# Altium footprint library Semiconductors.PcbLib: 51 footprints (part 3 of 4)
Each footprint in its own frame and in the unit in brackets; x right, y up, seen from the top. Pads: shape width x height; smd on the part's side, far side on the other; paste and mask are expansions set on the pad; w line width, h text height; cw(c..) or ccw(c..) is an arc to the next point about the centre after c.
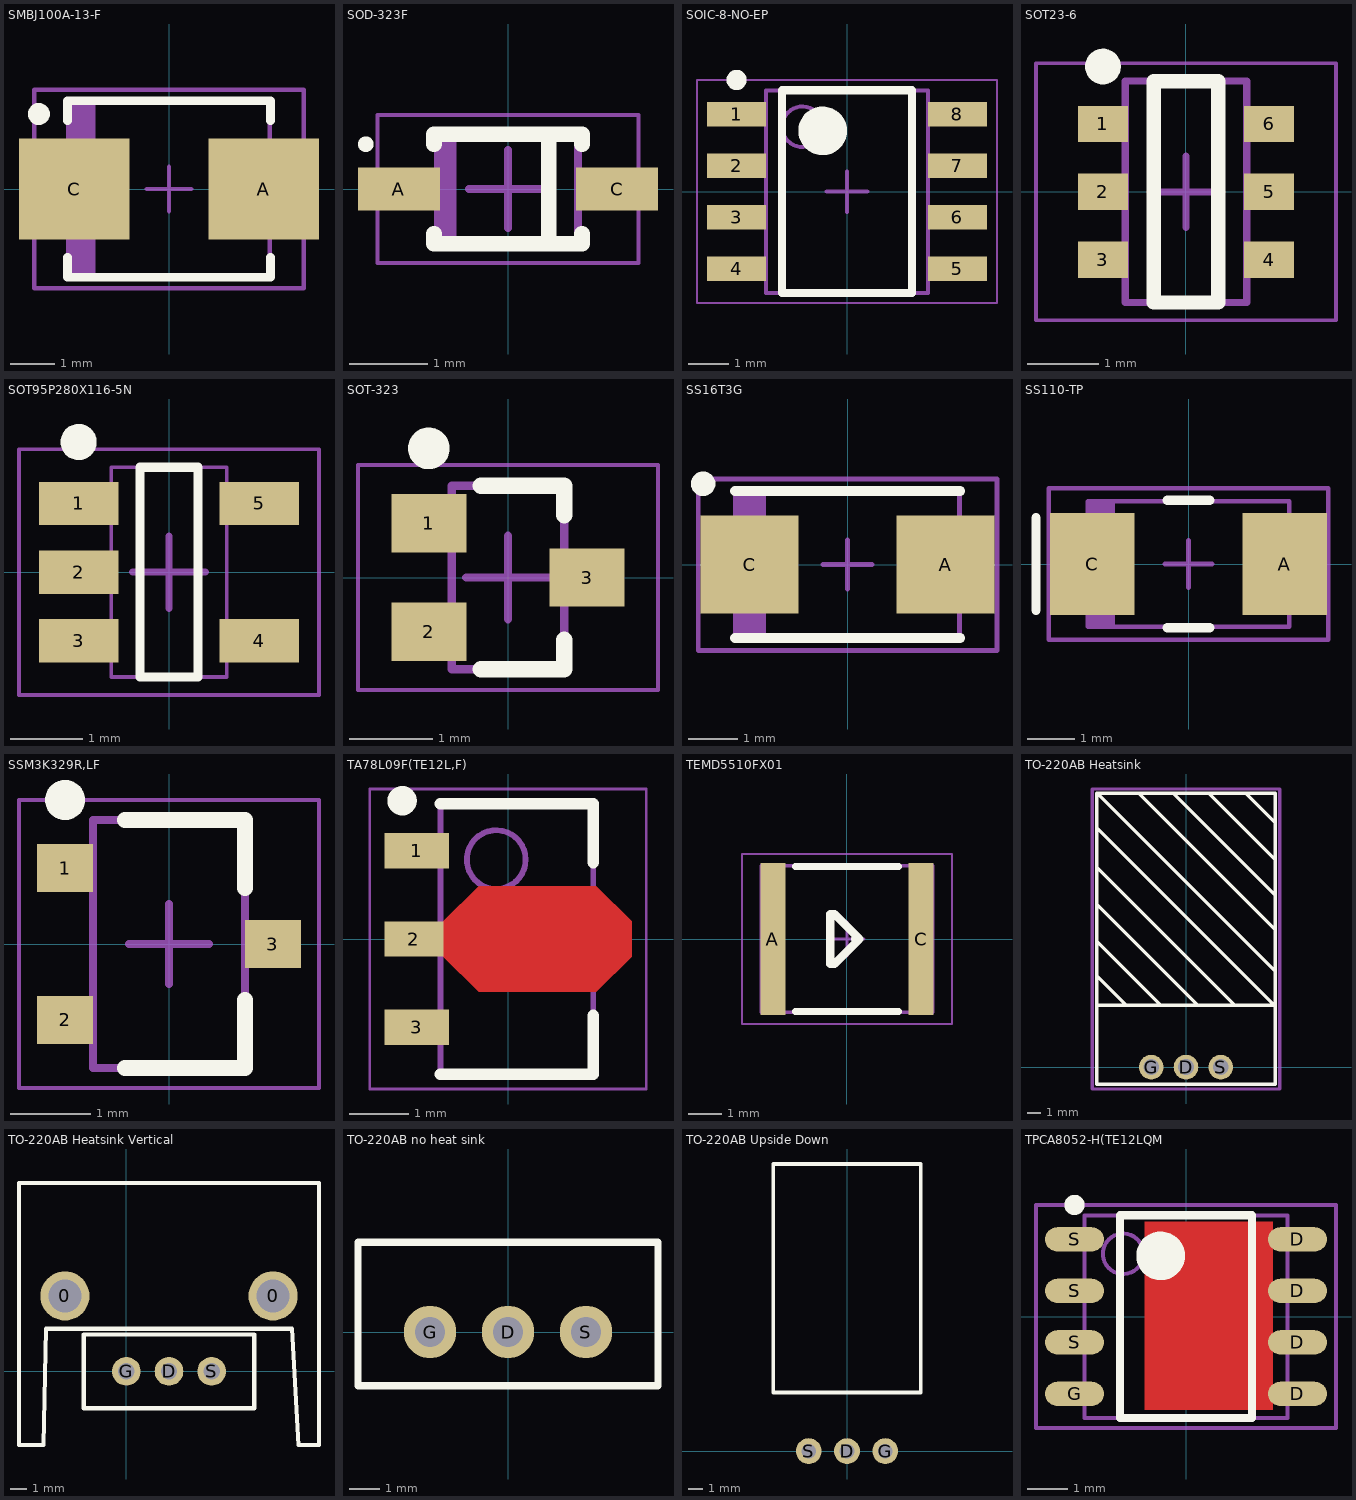
[diagram p2: the footprints below, top view; thin cyan lines are the x and y axes]

## SMBJ100A-13-F [mm] "TVS DIODE 100VWM 162VC SMB"
height 2.62
pads (2):
  rect 2.5x2.3 smd: A(2.15,0) C(-2.15,0)
Top Overlay:
  circle w0.25: c-2.95,1.7 r0.125
  lines w0.2: -2.3,-1.55 -2.3,-2 2.3,-2 2.3,-1.55 ; -2.3,1.55 -2.3,2 2.3,2 2.3,1.55
Mechanical 13:
  rectangle: -2.285,-1.97 -1.67,1.97
  lines w0.1: -2.285,-1.97 2.285,-1.97 2.285,1.97 -2.285,1.97 -2.285,-1.97
Mechanical 15:
  lines w0.1: -0.5,0 0.5,0 ; 0,-0.5 0,0.5 ; -3.05,-2.25 3.05,-2.25 3.05,2.25 -3.05,2.25 -3.05,-2.25
3D body: height 2.62, standoff 0, extent -2.285,-1.97 2.285,1.97

## SOD-323F [mm] "Molded Diode, 2-Leads, Body 1.70x1.25mm, IPC Medium Density"
height 1
pads (2):
  rect 1.05x0.55 smd: A(-1.4,0) C(1.4,0)
Top Overlay:
  circle w0.1: c-1.825,0.575 r0.05
  lines w0.2: -0.95,-0.575 -0.95,-0.7 0.95,-0.7 0.95,-0.575 ; -0.95,0.575 -0.95,0.7 0.95,0.7 0.95,0.575 ; 0.525,-0.7 0.525,0.6
Mechanical 13:
  rectangle: -0.9,-0.675 -0.658,0.675
  lines w0.1: -0.9,-0.675 -0.9,0.675 0.9,0.675 0.9,-0.675 -0.9,-0.675
Mechanical 15:
  lines w0.05: -1.675,-0.95 -1.675,0.95 1.675,0.95 1.675,-0.95 -1.675,-0.95
  lines w0.1: -0.5,0 0.5,0 ; 0,-0.5 0,0.5
3D body: height 1, standoff 0, extent -0.9,-0.675 0.9,0.675

## SOIC-8-NO-EP [mm] "SOIC, 8-Leads, Body 4.90x3.90mm, Pitch 1.27mm, IPC Medium Density"
height 1.75
pads (8):
  rect 1.45x0.6 smd: 1(-2.725,1.905) 2(-2.725,0.635) 3(-2.725,-0.635) 4(-2.725,-1.905) 5(2.725,-1.905) 6(2.725,-0.635) 7(2.725,0.635) 8(2.725,1.905)
Top Overlay:
  circle w0.25: c-2.725,2.755 r0.125
  circle w0.6: c-0.6,1.5 r0.3
  lines w0.2: -1.6,-2.5 -1.6,2.5 1.6,2.5 1.6,-2.5 -1.6,-2.5
Mechanical 13:
  circle w0.1: c-1.1,1.6 r0.5
  lines w0.1: -2,-2.5 -2,2.5 2,2.5 2,-2.5 -2,-2.5
Mechanical 15:
  lines w0.05: -3.7,-2.75 -3.7,2.75 3.7,2.75 3.7,-2.75 -3.7,-2.75
  lines w0.1: -0.5,0 0.5,0 ; 0,-0.5 0,0.5
3D body: height 1.75, standoff 0.1, extent -2,-2.5 2,2.5

## SOT23-6 [mil] "SOT23, 6-Leads, Body 3.03x2.84mm, Pitch 0.95mm, IPC Medium Density"
height 43.31
pads (6):
  rect 27.52x20 smd: 1(-45.77,37.4) 2(-45.77,0) 3(-45.77,-37.4) 4(45.77,-37.4) 5(45.77,0) 6(45.77,37.4)
Top Overlay:
  circle w9.84: c-45.77,69.06 r4.92
  lines w7.87: -17.72,-61.02 -17.72,61.02 17.72,61.02 17.72,-61.02 -17.72,-61.02
Mechanical 13:
  lines w3.94: -33.46,-61.02 33.46,-61.02 33.46,61.02 -33.46,61.02 -33.46,-61.02
Mechanical 15:
  lines w1.97: -82.68,-70.87 82.68,-70.87 82.68,70.87 -82.68,70.87 -82.68,-70.87
  lines w3.94: -19.68,0 19.69,0 ; 0,-19.68 0,19.69
3D body: height 43.31, standoff 0.39, extent -33.46,-61.02 33.46,61.02

## SOT95P280X116-5N [mm] "SOT23, 5-Leads, Body 2.90x2.80mm, Pitch 0.95mm, IPC Medium Density"
height 1.16
pads (5):
  rect 1.1x0.6 smd: 1(-1.25,0.95) 2(-1.25,0) 3(-1.25,-0.95) 4(1.25,-0.95) 5(1.25,0.95)
Top Overlay:
  circle w0.25: c-1.25,1.8 r0.125
  lines w0.127: -0.4,-1.45 -0.4,1.45 0.4,1.45 0.4,-1.45 -0.4,-1.45
Mechanical 13:
  lines w0.05: -0.8,-1.45 0.8,-1.45 0.8,1.45 -0.8,1.45 -0.8,-1.45
Mechanical 15:
  lines w0.05: -2.075,-1.7 2.075,-1.7 2.075,1.7 -2.075,1.7 -2.075,-1.7
  lines w0.1: -0.5,0 0.5,0 ; 0,-0.5 0,0.5
3D body: height 1.16, standoff 0.07, extent -0.8,-1.45 0.8,1.45

## SOT-323 [mm] "SOT23, 3-Leads, Body 2.00x2.20mm, Pitch 0.65mm, IPC Medium Density"
height 1
pads (3):
  rect 0.9x0.7 smd: 1(-0.95,0.65) 2(-0.95,-0.65) 3(0.95,0)
Top Overlay:
  circle w0.25: c-0.95,1.55 r0.125
  lines w0.2: -0.325,-1.1 0.675,-1.1 0.675,-0.75 ; -0.325,1.1 0.675,1.1 0.675,0.75
Mechanical 13:
  lines w0.1: -0.675,-1.1 -0.675,1.1 0.675,1.1 0.675,-1.1 -0.675,-1.1
Mechanical 15:
  lines w0.05: -1.8,-1.35 -1.8,1.35 1.8,1.35 1.8,-1.35 -1.8,-1.35
  lines w0.1: -0.5,0 0.5,0 ; 0,-0.5 0,0.5
3D body: height 1, standoff 0, extent -0.675,-1.1 0.675,1.1

## SS16T3G [mm] "DIODE SCHOTTKY 60V 1A SMA"
height 2.2
pads (2):
  rect 2x2 smd: A(2,0) C(-2,0)
Top Overlay:
  circle w0.25: c-2.95,1.65 r0.125
  lines w0.2: -2.3,-1.5 2.3,-1.5 ; -2.3,1.5 2.3,1.5
Mechanical 13:
  rectangle: -2.285,-1.46 -1.67,1.46
  lines w0.1: -2.285,-1.46 2.285,-1.46 2.285,1.46 -2.285,1.46 -2.285,-1.46
Mechanical 15:
  lines w0.1: -0.5,0 0.5,0 ; 0,-0.5 0,0.5 ; -3.05,-1.75 3.05,-1.75 3.05,1.75 -3.05,1.75 -3.05,-1.75
3D body: height 2.2, standoff 0, extent -2.285,-1.46 2.285,1.46

## SS110-TP [mil] "DIODE SCHOTTKY 100V 1A SMA"
height 116.14
pads (2):
  rect 70x85 smd: A(80,0) C(-80,0)
Top Overlay:
  lines w7.87: -126.81,-38.56 -126.81,38.56 ; -17.72,-53.15 17.72,-53.15 ; -17.72,53.15 17.72,53.15
Mechanical 13:
  rectangle: -83.66,-52.17 -61.16,52.17
  lines w3.94: -83.66,-52.17 -83.66,52.17 83.66,52.17 83.66,-52.17 -83.66,-52.17
Mechanical 15:
  lines w3.94: -19.68,0 19.68,0 ; 0,-19.68 0,19.68 ; -116.14,-62.99 -116.14,62.99 116.14,62.99 116.14,-62.99 -116.14,-62.99
3D body: height 116.14, standoff 0, extent -83.66,-52.17 83.66,52.17

## SSM3K329R,LF [mm] "MOSFET N CH 30V 3.5A 2-3Z1A"
height 0.8
pads (3):
  rect 0.7x0.6 smd: 1(-1.3,0.95) 2(-1.3,-0.95) 3(1.3,0)
Top Overlay:
  circle w0.25: c-1.3,1.8 r0.125
  lines w0.2: -0.55,-1.55 0.95,-1.55 0.95,-0.7 ; -0.55,1.55 0.95,1.55 0.95,0.7
Mechanical 13:
  lines w0.1: -0.95,-1.55 -0.95,1.55 0.95,1.55 0.95,-1.55 -0.95,-1.55
Mechanical 15:
  lines w0.05: -1.875,-1.8 -1.875,1.8 1.875,1.8 1.875,-1.8 -1.875,-1.8
  lines w0.1: -0.5,0 0.5,0 ; 0,-0.5 0,0.5
3D body: height 0.8, standoff 0, extent -0.95,-1.55 0.95,1.55

## TA78L09F(TE12L,F) [mm] "IC REG LDO 9V 0.15A PWMINI"
height 1.6
pads (3):
  rect 1.1x0.6 smd: 1(-1.55,1.5) 3(-1.55,-1.5)
  rect 1x0.6 smd: 2(-1.6,0)
Top Layer:
  region: -1.1,0.3 -0.5,0.9 1.5,0.9 2.1,0.3 2.1,-0.3 1.5,-0.9 -0.5,-0.9 -1.1,-0.3
Top Overlay:
  circle w0.25: c-1.8,2.35 r0.125
  lines w0.2: -1.15,-2.3 1.45,-2.3 1.45,-1.3 ; -1.15,2.3 1.45,2.3 1.45,1.3
Mechanical 13:
  circle w0.1: c-0.2,1.35 r0.5
  lines w0.1: -1.15,-2.3 1.45,-2.3 1.45,2.3 -1.15,2.3 -1.15,-2.3
Mechanical 15:
  lines w0.05: -2.35,-2.55 2.35,-2.55 2.35,2.55 -2.35,2.55 -2.35,-2.55
  lines w0.1: -0.35,0 0.65,0 ; 0.15,-0.5 0.15,0.5
3D body: height 1.6, standoff 0, extent -1.15,-2.3 1.45,2.3

## TEMD5510FX01 [mm] "PHOTODIODE PIN HI SPEED MINI SMD"
height 1.12
pads (2):
  rect 0.75x4.55 smd: A(-2.225,0) C(2.225,0)
Top Overlay:
  lines w0.2: -1.55,-2.175 1.55,-2.175 ; -1.55,2.175 1.55,2.175
  lines w0.254: 0.25,0 0.375,0 ; 0.375,0 -0.375,0.75 -0.5,0.75 -0.5,-0.75 -0.375,-0.75 0.375,0
Mechanical 13:
  lines w0.1: -2.575,-2.195 -2.575,2.195 2.575,2.195 2.575,-2.195 -2.575,-2.195
Mechanical 15:
  lines w0.05: -3.15,-2.55 -3.15,2.55 3.15,2.55 3.15,-2.55 -3.15,-2.55
  lines w0.1: -0.5,0 0.5,0 ; 0,-0.5 0,0.5
3D body: height 1.12, standoff 0, extent -2.075,-2.195 2.075,2.195
3D body: height 1.12, standoff 0, extent -2.575,-2.195 -2.075,2.195
3D body: height 1.12, standoff 0, extent 2.075,-2.195 2.575,2.195

## TO-220AB Heatsink [mm] "HEXFET Power MOSFET w/ Heat Sink"
height 12.7
pads (3):
  round 1.8 hole 1.15: D(0,0) G(-2.54,0) S(2.54,0)
Top Overlay:
  lines w0.25: -6.53,11.89 0.86,4.5 ; -6.53,14.59 3.51,4.55 ; -6.52,4.5 6.52,4.5 ; -6.48,6.64 -4.39,4.55 ; -6.48,9.14 -1.89,4.55 ; -6.48,17.44 6.42,4.54 ; -3.44,20 6.49,10.07 ; -0.94,20 6.49,12.57 ; 1.66,20 6.49,15.17 ; 4.36,20 6.49,17.87 ; 6.52,7 -6.48,20 -6.52,20 ; -6.52,20 6.52,20 6.52,-1.25 -6.52,-1.25 -6.52,20
Mechanical 15:
  lines w0.25: -6.84,-1.6 6.84,-1.6 6.84,20.3 -6.84,20.3 -6.84,-1.6
3D body: height 12.7, standoff 0, extent 3.96,4.5 6.36,19.9
3D body: height 12.7, standoff 0, extent -6.44,4.5 -4.04,19.9
3D body: height 5.3, standoff 0, extent -6.44,4.5 6.36,19.9
3D body: height 4.5, standoff 4, extent -3.04,0 -2.04,4.7
3D body: height 4.5, standoff 0, extent -3.04,0 -2.04,0.3
3D body: height 4.5, standoff 0, extent -0.5,-0.15 0.5,0.15
3D body: height 4.5, standoff 0, extent 1.96,-0.1 2.96,0.2
3D body: height 4.5, standoff 4, extent -0.44,0 0.56,4.7
3D body: height 4.5, standoff 4, extent 2.06,0 3.06,4.7

## TO-220AB Heatsink Vertical [mm] "Vertical Heatsink for better heat management"
height 30.5
pads (5):
  round 3 hole 2: 0(-3.75,4.6) 0(8.95,4.6)
  round 1.75 hole 1: D(2.6,0) G(0,0) S(5.2,0)
Top Overlay:
  lines w0.254: -6.55,-4.5 -6.55,11.5 11.75,11.5 11.75,-4.5 10.5,-4.5 10.1,2.6 -4.9,2.6 -5.05,-4.5 -6.55,-4.5 ; -2.6,-2.25 7.8,-2.25 7.8,2.25 -2.6,2.25 -2.6,-2.25
3D body: height 18.5, standoff 0, extent -2.54,-2.286 7.747,2.286
3D body: height 30.5, standoff 0, extent 6.096,6.858 8.382,11.557
3D body: height 30.5, standoff 0, extent -3.175,6.731 -1.27,11.557
3D body: height 30.5, standoff 0, extent 1.27,6.858 3.937,11.557
3D body: height 30.5, standoff 0, extent 10.033,6.731 11.811,11.43
3D body: height 30.5, standoff 0, extent -6.477,6.858 -5.08,11.43
3D body: height 30.5, standoff 0, extent -6.477,-4.445 11.811,6.985
3D body: height 19.5, standoff 0, extent -2.667,-2.159 7.747,2.286
3D body: height 30.5, standoff 0, extent -3.556,2.794 9.017,6.858
3D body: height 30.5, standoff 0, extent 9.906,3.937 11.811,7.239
3D body: height 30.5, standoff 0, extent -6.477,4.191 -4.699,6.985

## TO-220AB no heat sink [mm] "Vertically mounted FET without heatsink"
height 20.5
pads (3):
  round 1.75 hole 1: D(0,0) G(-2.6,0) S(2.6,0)
Top Overlay:
  lines w0.25: -5,-1.8 -5,3 5,3 5,-1.8 -5,-1.8
3D body: height 4, standoff 0, extent 2.1,-0.3 3.1,0
3D body: height 4, standoff 0, extent -0.44,-0.15 0.56,0.15
3D body: height 4, standoff 0, extent -2.9,-0.2 -1.9,0.1
3D body: height 20.5, standoff 4, extent -5,-1.775 5.025,3

## TO-220AB Upside Down [mm] "High current FET installed like Devin's motor controllers"
height 4.83
pads (3):
  round 1.75 hole 1: D(0,0) G(2.6,0) S(-2.6,0)
Top Overlay:
  lines w0.25: -5,3.975 5,3.975 5,19.5 -5,19.5 -5,3.975
3D body: height 1.5, standoff 1, extent -3.1,0 -2.1,4.7
3D body: height 1.5, standoff 0, extent -3.1,0 -2.1,0.3
3D body: height 1.5, standoff 0, extent -0.56,-0.15 0.44,0.15
3D body: height 1.5, standoff 0, extent 1.9,-0.1 2.9,0.2
3D body: height 1.5, standoff 1, extent -0.5,0 0.5,4.7
3D body: height 1.5, standoff 1, extent 2,0 3,4.7
3D body: height 4, standoff 0, extent -5.025,3.975 5.025,19.525

## TPCA8052-H(TE12LQM [mm] "MOSFET N-CH 40V 20A 8SOP"
height 0.95
pads (8):
  oval 1.45x0.6 smd: D(2.75,-1.905) D(2.75,-0.635) D(2.75,0.635) D(2.75,1.905) G(-2.75,-1.905) S(-2.75,-0.635) S(-2.75,0.635) S(-2.75,1.905)
Top Layer:
  rectangle: -1.025,-2.3 2.15,2.35
Top Overlay:
  circle w0.25: c-2.75,2.755 r0.125
  circle w0.6: c-0.625,1.5 r0.3
  lines w0.2: -1.625,-2.5 -1.625,2.5 1.625,2.5 1.625,-2.5 -1.625,-2.5
Mechanical 13:
  circle w0.1: c-1.55,1.55 r0.5
  lines w0.1: -2.5,-2.5 -2.5,2.5 2.5,2.5 2.5,-2.5 -2.5,-2.5
Mechanical 15:
  lines w0.1: -0.5,0 0.5,0 ; 0,-0.5 0,0.5 ; -3.7,-2.75 -3.7,2.75 3.7,2.75 3.7,-2.75 -3.7,-2.75
3D body: height 0.95, standoff 0.2, extent -2.5,-2.5 2.5,2.5